# Altium footprint library Manu.PcbLib: 82 footprints (part 4 of 6)
Each footprint in its own frame and in the unit in brackets; x right, y up, seen from the top. Pads: shape width x height; smd on the part's side, far side on the other; paste and mask are expansions set on the pad; w line width, h text height; cw(c..) or ccw(c..) is an arc to the next point about the centre after c.
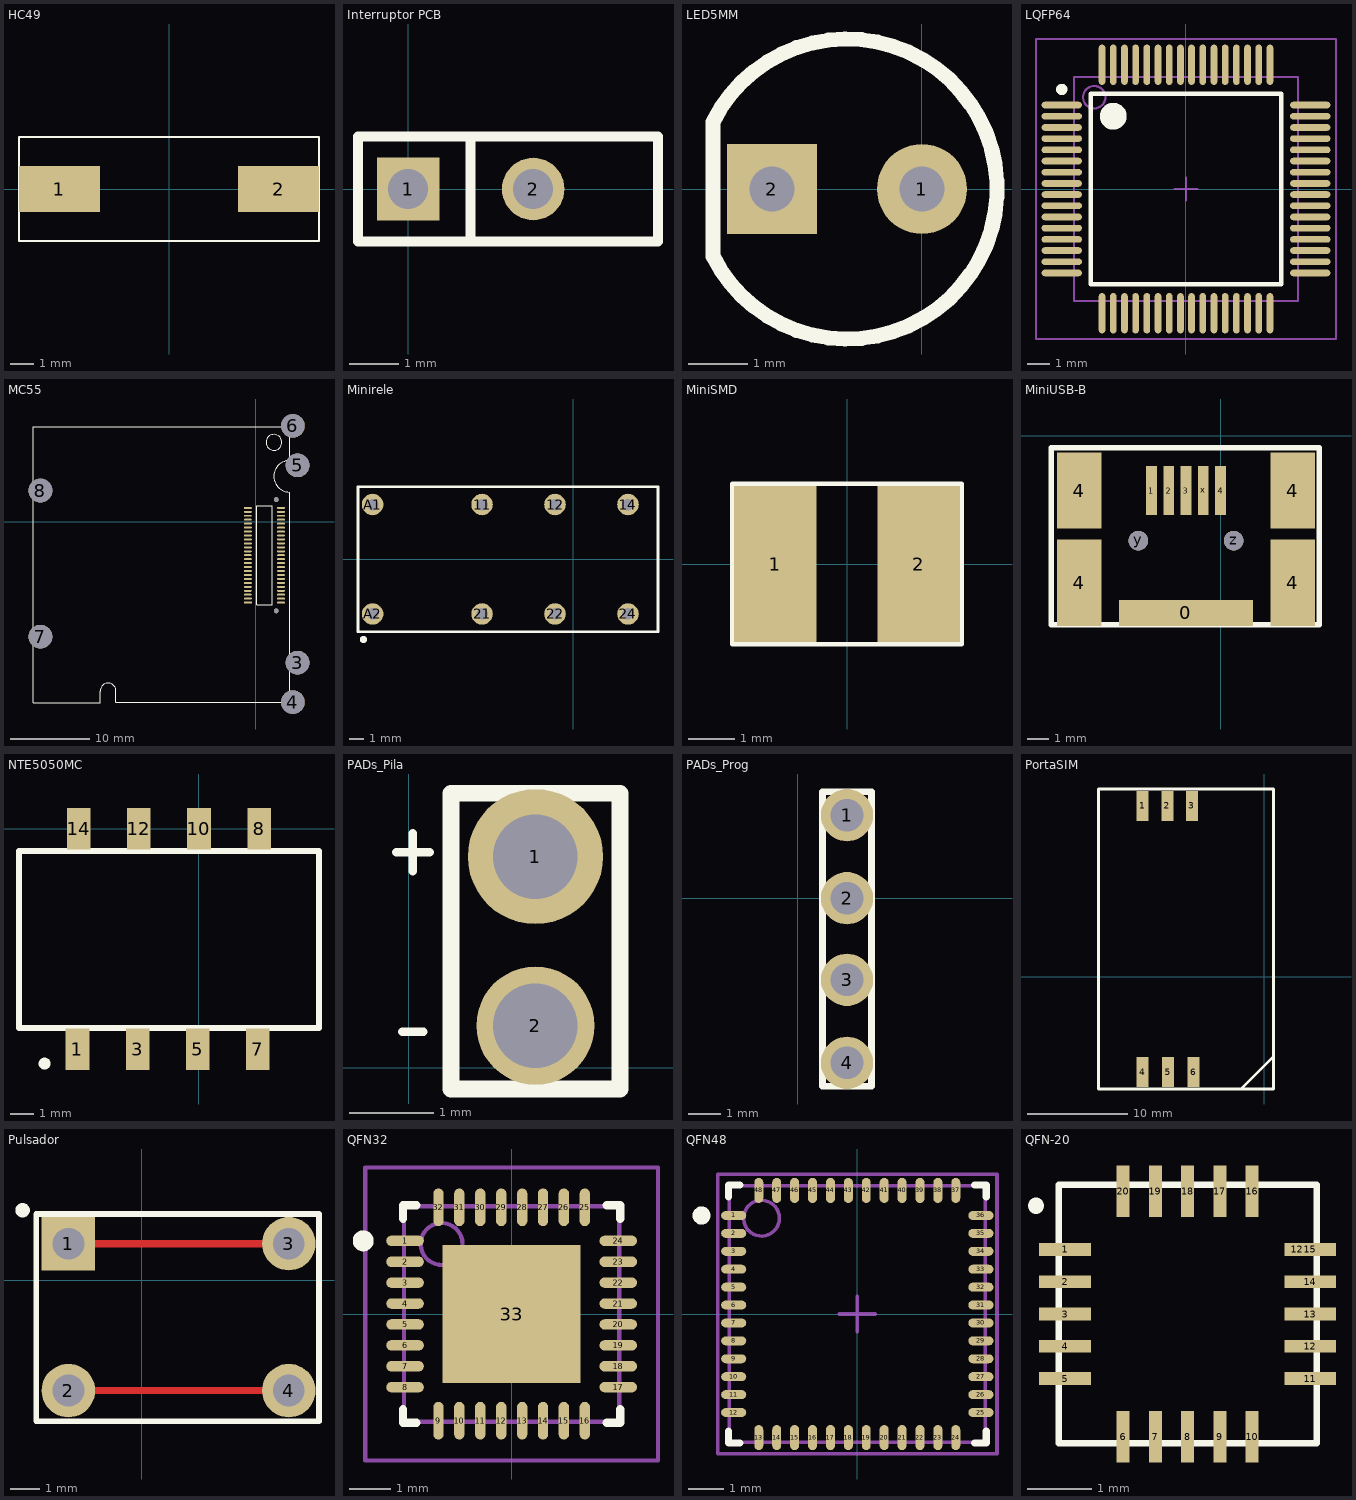
[diagram p3: the footprints below, top view; thin cyan lines are the x and y axes]

## HC49 [mm]
pads (2):
  rect 3.5x2 smd: 1(-4.75,0) 2(4.75,0)
Top Overlay:
  lines w0.1: -6.5,-2.25 6.5,-2.25 6.5,2.25 -6.5,2.25 -6.5,-2.25

## Interruptor PCB [mil] "Interruptor PCB C.F.:3289758"
height 1.61
pads (2):
  rect 50x50 hole 32.01 unplated: 1(0,0)
  round 50 hole 32 unplated: 2(100,0)
Top Overlay:
  lines w7.87: 50,-42.01 50,42.01 ; -40,-42.01 199.72,-42.01 199.72,42.01 -40,42.01 -40,-42.01

## LED5MM [mil]
pads (2):
  round 60 hole 30: 1(0,0)
  rect 60x60 hole 30 square: 2(-100,0)
Top Overlay:
  lines w10: -139.45,-45 -139.45,44.72 cw(c-50,0) -139.44,-44.72

## LQFP64 [mm] "Thin QFP, 64-Leads, Body 10x10mm, Pitch 0.5mm, IPC Medium Density"
height 1.6
pads (64):
  oval 1.8x0.3 smd: 1(-5.55,3.75) 2(-5.55,3.25) 3(-5.55,2.75) 4(-5.55,2.25) 5(-5.55,1.75) 6(-5.55,1.25) 7(-5.55,0.75) 8(-5.55,0.25) 9(-5.55,-0.25) 10(-5.55,-0.75) 11(-5.55,-1.25) 12(-5.55,-1.75) 13(-5.55,-2.25) 14(-5.55,-2.75) 15(-5.55,-3.25) 16(-5.55,-3.75) 33(5.55,-3.75) 34(5.55,-3.25) 35(5.55,-2.75) 36(5.55,-2.25) 37(5.55,-1.75) 38(5.55,-1.25) 39(5.55,-0.75) 40(5.55,-0.25) 41(5.55,0.25) 42(5.55,0.75) 43(5.55,1.25) 44(5.55,1.75) 45(5.55,2.25) 46(5.55,2.75) 47(5.55,3.25) 48(5.55,3.75)
  oval 0.3x1.8 smd: 17(-3.75,-5.55) 18(-3.25,-5.55) 19(-2.75,-5.55) 20(-2.25,-5.55) 21(-1.75,-5.55) 22(-1.25,-5.55) 23(-0.75,-5.55) 24(-0.25,-5.55) 25(0.25,-5.55) 26(0.75,-5.55) 27(1.25,-5.55) 28(1.75,-5.55) 29(2.25,-5.55) 30(2.75,-5.55) 31(3.25,-5.55) 32(3.75,-5.55) 49(3.75,5.55) 50(3.25,5.55) 51(2.75,5.55) 52(2.25,5.55) 53(1.75,5.55) 54(1.25,5.55) 55(0.75,5.55) 56(0.25,5.55) 57(-0.25,5.55) 58(-0.75,5.55) 59(-1.25,5.55) 60(-1.75,5.55) 61(-2.25,5.55) 62(-2.75,5.55) 63(-3.25,5.55) 64(-3.75,5.55)
Top Overlay:
  circle w0.6: c-3.25,3.25 r0.3
  circle w0.25: c-5.55,4.45 r0.125
  lines w0.2: -4.25,-4.25 4.25,-4.25 4.25,4.25 -4.25,4.25 -4.25,-4.25
Mechanical 13:
  circle w0.1: c-4.1,4.1 r0.5
  lines w0.1: -5,-5 5,-5 5,5 -5,5 -5,-5
Mechanical 15:
  lines w0.1: -0.5,0 0.5,0 ; 0,-0.5 0,0.5 ; -6.7,-6.7 6.7,-6.7 6.7,6.7 -6.7,6.7 -6.7,-6.7
3D body: height 1.6, standoff 0, extent -5,-5 5,5

## MC55 [mm] "Modem MC55"
pads (58):
  round 0.6 hole 0.62: 0(2.58,-11.29) 1(2.58,2.8)
  oval 1x0.25 smd: 1(3.18,-10.24) 2(3.18,-9.74) 3(3.18,-9.24) 4(3.18,-8.74) 5(3.18,-8.24) 6(3.18,-7.74) 7(3.18,-7.24) 8(3.18,-6.74) 9(3.18,-6.24) 10(3.18,-5.74) 11(3.18,-5.24) 12(3.18,-4.74) 13(3.18,-4.24) 14(3.18,-3.74) 15(3.18,-3.24) 16(3.18,-2.74) 17(3.18,-2.24) 18(3.18,-1.74) 19(3.18,-1.24) 20(3.18,-0.74) 21(3.18,-0.24) 22(3.18,0.26) 23(3.18,0.76) 24(3.18,1.26) 25(3.18,1.76) 26(-1.02,1.76) 27(-1.02,1.26) 28(-1.02,0.76) 29(-1.02,0.26) 30(-1.02,-0.24) 31(-1.02,-0.74) 32(-1.02,-1.24) 33(-1.02,-1.74) 34(-1.02,-2.24) 35(-1.02,-2.74) 36(-1.02,-3.24) 37(-1.02,-3.74) 38(-1.02,-4.24) 39(-1.02,-4.74) 40(-1.02,-5.24) 41(-1.02,-5.74) 42(-1.02,-6.24) 43(-1.02,-6.74) 44(-1.02,-7.24) 45(-1.02,-7.74) 46(-1.02,-8.24) 47(-1.02,-8.74) 48(-1.02,-9.24) 49(-1.02,-9.74)
  round 3 hole 3: 3(5.28,-17.85) 4(4.68,-22.85) 5(5.28,7.15) 6(4.68,12.15) 7(-27.29,-14.55) 8(-27.29,3.95)
  rect 1x0.25 smd: 50(-1.02,-10.24)
Top Layer:
  lines w0.254: 4.68,-17.85 5.28,-17.85
Top Overlay:
  circle w0.1: c2.28,10.06 r1
  lines w0.1: 0.115,-10.49 0.115,2.01 2.045,2.01 2.045,-10.49 0.123,-10.49
  lines w0.15: -19.726,-22.94 -28.22,-22.94 -28.22,12.06 4.28,12.06 4.28,7.76 ccw(c4.28,5.76) 4.28,3.76 4.28,-22.24 ccw(c4.28,-22.94) 3.58,-22.94 ; -19.72,-22.934 -19.72,-21.44 cw(c-18.72,-21.44) -17.72,-21.44 -17.72,-22.883 3.523,-22.883

## Minirele [mm] "Dual-Pole Dual-Throw Relay; 8 Leads"
pads (8):
  round 1.5 hole 0.8: 11(-6.35,3.81) 12(-1.27,3.81) 14(3.81,3.81) 21(-6.35,-3.81) 22(-1.27,-3.81) 24(3.81,-3.81) A1(-13.97,3.81) A2(-13.97,-3.81)
Top Overlay:
  circle w0.25: c-14.603,-5.588 r0.125
  lines w0.2: -14.986,-5.05 5.9,-5.05 5.9,5.05 -14.986,5.05 -14.986,-5.05

## MiniSMD [mm]
pads (2):
  rect 1.8x3.41 smd: 1(-1.565,0) 2(1.565,0)
Top Overlay:
  lines w0.1: -2.5,-1.75 2.5,-1.75 2.5,1.75 -2.5,1.75 -2.5,0.84 -2.5,-1.75

## MiniUSB-B [mm]
pads (12):
  rect 6.2x1.2 smd: 0(-1.6,-8.19)
  rect 0.5x2.25 smd: 1(-3.2,-2.54) 2(-2.4,-2.54) 3(-1.6,-2.54) 4(0,-2.54) x(-0.8,-2.54)
  rect 2.05x4 smd: 4(-6.525,-6.79) 4(3.325,-6.79)
  rect 2.05x3.5 smd: 4(-6.525,-2.54) 4(3.325,-2.54)
  round 0.9 hole 0.9: y(-3.8,-4.855) z(0.6,-4.855)
Top Layer:
  lines w0.254: -6.525,-2.54 -6.525,-2.54 ; 3.325,-2.54 3.325,-2.54
Top Overlay:
  lines w0.254: -7.812,-8.734 -7.812,-0.574 4.559,-0.574 4.559,-8.734 -7.812,-8.734

## NTE5050MC [mm] "DC/DC"
pads (8):
  rect 1x1.75 smd: 1(-5.13,-9.32) 3(-2.59,-9.32) 5(-0.05,-9.32) 7(2.49,-9.32) 8(2.54,0) 10(0,0) 12(-2.54,0) 14(-5.08,0)
Top Overlay:
  circle w0.25: c-6.52,-9.92 r0.125
  lines w0.254: -7.6,-0.94 -7.6,-8.41 5.07,-8.41 5.07,-0.94 -7.58,-0.94

## PADs_Pila [mm] "Alimentacion"
pads (2):
  round 1.6 hole 1: 1(1.5,2.5)
  round 1.4 hole 1: 2(1.5,0.5)
Top Overlay:
  lines w0.1: -0.15,2.55 0.25,2.55 ; -0.075,0.425 0.175,0.425 ; 0.05,2.325 0.05,2.775
  lines w0.2: 0.5,-0.25 0.5,3.25 2.5,3.25 2.5,-0.25 0.5,-0.25

## PADs_Prog [mm] "Para programar"
pads (4):
  round 1.6 hole 1: 1(1.5,2.54) 2(1.5,0) 3(1.5,-2.5) 4(1.5,-5.04)
Top Overlay:
  lines w0.2: 0.75,-5.75 2.25,-5.75 2.25,3.25 0.75,3.25 0.75,-5.75

## PortaSIM [mm] "Portasim"
pads (6):
  rect 1.2x3 smd: 1(-12.1,17.03) 2(-9.63,17.03) 3(-7.19,17.03) 4(-12.1,-9.49) 5(-9.56,-9.49) 6(-7.02,-9.49)
Top Overlay:
  lines w0.254: -2.24,-11.12 0.91,-7.97 ; -16.5,-11.17 -16.5,18.72 0.94,18.72 0.94,-11.17 -16.5,-11.17

## Pulsador [mm] "Pulsador 4 patas"
pads (4):
  rect 1.85x1.85 hole 1.1: 1(-2.54,1.27)
  round 1.85 hole 1.1: 2(-2.54,-3.81) 3(5.08,1.27) 4(5.08,-3.81)
Top Layer:
  lines w0.254: -2.54,-3.81 5.08,-3.81 ; -2.54,1.27 5.08,1.27
Top Overlay:
  circle w0.25: c-4.125,2.425 r0.125
  lines w0.2: -3.65,-4.865 -3.65,2.3 6.125,2.3 6.125,-4.875 -3.625,-4.875

## QFN32 [mm] "32-Pin Quad Flat No-Lead (QFG32) - Pb-Free, IPC Low Density"
height 1
pads (33):
  oval 0.9x0.25 smd: 1(-2.55,1.75) 2(-2.55,1.25) 3(-2.55,0.75) 4(-2.55,0.25) 5(-2.55,-0.25) 6(-2.55,-0.75) 7(-2.55,-1.25) 8(-2.55,-1.75) 17(2.55,-1.75) 18(2.55,-1.25) 19(2.55,-0.75) 20(2.55,-0.25) 21(2.55,0.25) 22(2.55,0.75) 23(2.55,1.25) 24(2.55,1.75)
  oval 0.25x0.9 smd: 9(-1.75,-2.55) 10(-1.25,-2.55) 11(-0.75,-2.55) 12(-0.25,-2.55) 13(0.25,-2.55) 14(0.75,-2.55) 15(1.25,-2.55) 16(1.75,-2.55) 25(1.75,2.55) 26(1.25,2.55) 27(0.75,2.55) 28(0.25,2.55) 29(-0.25,2.55) 30(-0.75,2.55) 31(-1.25,2.55) 32(-1.75,2.55)
  rect 3.3x3.3 smd: 33(0,0)
Top Overlay:
  circle w0.25: c-3.55,1.75 r0.125
  lines w0.2: -2.6,-2.275 -2.6,-2.6 -2.275,-2.6 ; -2.6,2.275 -2.6,2.6 -2.275,2.6 ; 2.275,-2.6 2.6,-2.6 2.6,-2.275 ; 2.275,2.6 2.6,2.6 2.6,2.275
Mechanical 13:
  circle w0.1: c-1.675,1.675 r0.5
  lines w0.1: -2.575,-2.575 -2.575,2.575 2.575,2.575 2.575,-2.575 -2.575,-2.575
Mechanical 15:
  lines w0.1: -0.5,0 0.5,0 ; 0,-0.5 0,0.5 ; -3.5,-3.5 -3.5,3.5 3.5,3.5 3.5,-3.5 -3.5,-3.5
3D body: height 1, standoff 0, extent -2.575,-2.575 2.575,2.575

## QFN48 [mm] "48-Pin Quad Flat No-Lead 0.5 mm Pitch, IPC High Density"
height 1
pads (48):
  oval 0.7x0.25 smd: 1(-3.45,2.75) 2(-3.45,2.25) 3(-3.45,1.75) 4(-3.45,1.25) 5(-3.45,0.75) 6(-3.45,0.25) 7(-3.45,-0.25) 8(-3.45,-0.75) 9(-3.45,-1.25) 10(-3.45,-1.75) 11(-3.45,-2.25) 12(-3.45,-2.75) 25(3.45,-2.75) 26(3.45,-2.25) 27(3.45,-1.75) 28(3.45,-1.25) 29(3.45,-0.75) 30(3.45,-0.25) 31(3.45,0.25) 32(3.45,0.75) 33(3.45,1.25) 34(3.45,1.75) 35(3.45,2.25) 36(3.45,2.75)
  oval 0.25x0.7 smd: 13(-2.75,-3.45) 14(-2.25,-3.45) 15(-1.75,-3.45) 16(-1.25,-3.45) 17(-0.75,-3.45) 18(-0.25,-3.45) 19(0.25,-3.45) 20(0.75,-3.45) 21(1.25,-3.45) 22(1.75,-3.45) 23(2.25,-3.45) 24(2.75,-3.45) 37(2.75,3.45) 38(2.25,3.45) 39(1.75,3.45) 40(1.25,3.45) 41(0.75,3.45) 42(0.25,3.45) 43(-0.25,3.45) 44(-0.75,3.45) 45(-1.25,3.45) 46(-1.75,3.45) 47(-2.25,3.45) 48(-2.75,3.45)
Top Overlay:
  circle w0.25: c-4.35,2.75 r0.125
  lines w0.2: -3.6,-3.275 -3.6,-3.6 -3.275,-3.6 ; -3.6,3.275 -3.6,3.6 -3.275,3.6 ; 3.275,-3.6 3.6,-3.6 3.6,-3.275 ; 3.275,3.6 3.6,3.6 3.6,3.275
Mechanical 13:
  circle w0.1: c-2.675,2.675 r0.5
  lines w0.1: -3.575,-3.575 3.575,-3.575 3.575,3.575 -3.575,3.575 -3.575,-3.575
Mechanical 15:
  lines w0.1: -0.5,0 0.5,0 ; 0,-0.5 0,0.5 ; -3.9,-3.9 3.9,-3.9 3.9,3.9 -3.9,3.9 -3.9,-3.9
3D body: height 1, standoff 0, extent -3.575,-3.575 3.575,3.575

## QFN-20 [mm]
pads (21):
  rect 0.8x0.2 smd: 1(-5.9,5.2) 2(-5.9,4.7) 3(-5.9,4.2) 4(-5.9,3.7) 5(-5.9,3.2) 11(-2.1,3.2) 12(-2.1,3.7) 13(-2.1,4.2) 14(-2.1,4.7) 15(-2.1,5.2)
  rect 0.2x0.8 smd: 6(-5,2.3) 7(-4.5,2.3) 8(-4,2.3) 9(-3.5,2.3) 10(-3,2.3) 16(-3,6.1) 17(-3.5,6.1) 18(-4,6.1) 19(-4.5,6.1) 20(-5,6.1)
  rect 0.4x0.2 on Top Paste: 12(-2.3,5.2)
Top Overlay:
  circle w0.254: c-6.35,5.875 r0
  lines w0.1: -6,2.2 -2,2.2 -2,6.2 -6,6.2 -6,2.2